# EAGLE library part MAX710E (library IC - PMIC - Vreg - DC-DC)
3.3V/5V or Adjustable, Step-Up Step-Down DC-DC Converter Compact, Low-Noise, Transformerless Step-Up/Down Regulator with Single Small Inductor Has Low Output Ripple
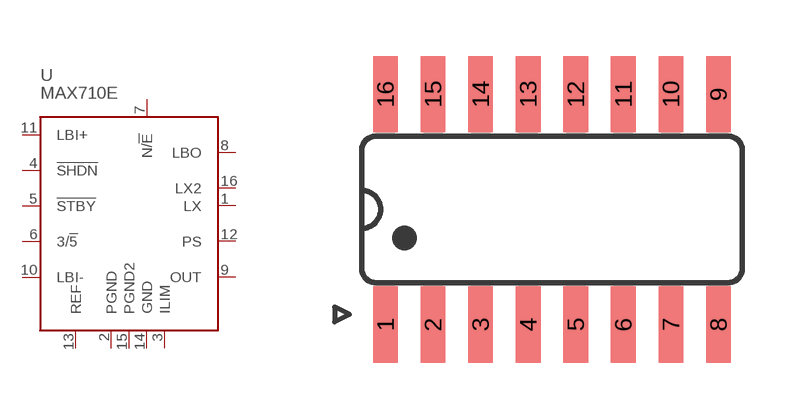
[diagram p1: symbol with the pads of SO16; footprint SO16]

Designator prefix U

## MAX710ESE  [SO16]
1  LX
2  PGND  pwr
3  ILIM  in
4  !SHDN  in
5  !STBY  in
6  3/!5  in
7  N/!E  in
8  LBO  out
9  OUT  out
10  LBI-  in
11  LBI+  in
12  PS
13  REF  out
14  GND  pwr
15  PGND2  pwr
16  LX2

## Footprint SO16 (pad centres in mm)
Small Outline Package .150 SIOC Source: http://www.maxim-ic.com/package_drawings/21-0041B.pdf
smd 0.66 x 2.032: 1 -4.445,-3.073; 2 -3.175,-3.073; 3 -1.905,-3.073; 4 -0.635,-3.073; 5 0.635,-3.073; 6 1.905,-3.073; 7 3.175,-3.073; 8 4.445,-3.073; 9 4.445,3.073; 10 3.175,3.073; 11 1.905,3.073; 12 0.635,3.073; 13 -0.635,3.073; 14 -1.905,3.073; 15 -3.175,3.073; 16 -4.445,3.073